# EAGLE library part DAC8830 (library texas-instruments)
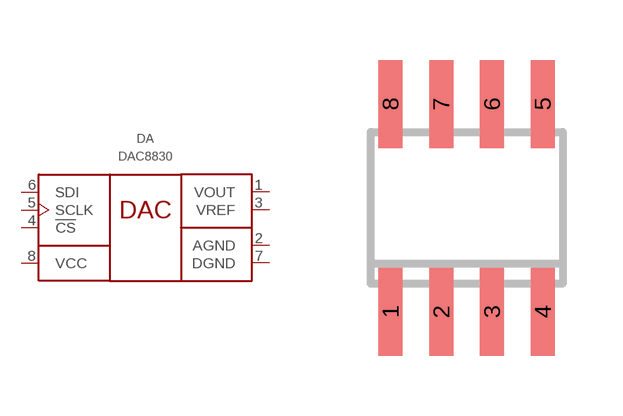
[diagram p13: symbol with the pads of SO08; footprint SO08]

Designator prefix DA

## DAC8830IBDR  [SO08]
1  VOUT  out
2  AGND  pwr
3  VREF  in
4  !CS  in
5  SCLK  in
6  SDI  in
7  DGND  pwr
8  VCC  pwr

## DAC8830ICDR  [SO08]
Pads as for SO08

## DAC8830IDR  [SO08]
Pads as for SO08

## Footprint SO08 (pad centres in mm)
SMALL OUTLINE INTEGRATED CIRCUIT body 3.9 mm/JEDEC MS-012AA
smd 0.6 x 2.2: 1 -1.905,-2.6; 2 -0.635,-2.6; 3 0.635,-2.6; 4 1.905,-2.6; 5 1.905,2.6; 6 0.635,2.6; 7 -0.635,2.6; 8 -1.905,2.6